# Altium footprint library Gateway.PcbLib: 24 footprints (part 2 of 2)
Each footprint in its own frame and in the unit in brackets; x right, y up, seen from the top. Pads: shape width x height; smd on the part's side, far side on the other; paste and mask are expansions set on the pad; w line width, h text height; cw(c..) or ccw(c..) is an arc to the next point about the centre after c.
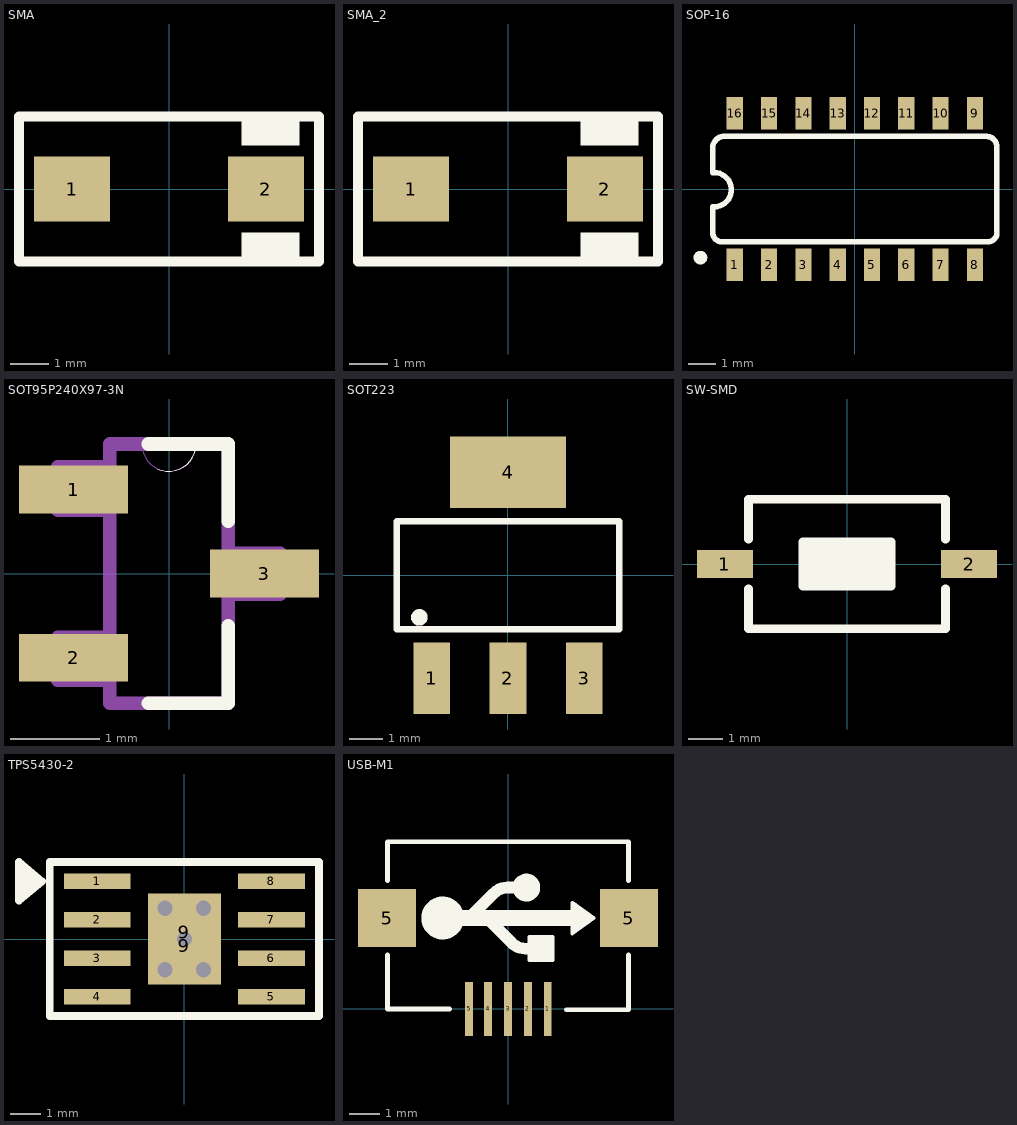
[diagram p1: the footprints below, top view; thin cyan lines are the x and y axes]

## SMA [mm]
height 5.08
pads (2):
  rect 2x1.7 smd: 1(-2.544,0) 2(2.544,0)
Top Overlay:
  rectangle: 1.905,-1.905 3.429,-1.145
  region: 3.429,1.905 1.905,1.905 1.905,1.145 3.429,1.145
  lines w0.254: -3.937,-1.903 3.937,-1.903 3.937,1.903 -3.937,1.903 -3.937,-1.903
3D body: height 0.2, standoff 0, extent 2.032,-0.864 2.87,0.864
3D body: height 1.14, standoff 0, extent 2.718,-0.864 2.87,0.864
3D body: height 1.14, standoff 0.94, extent 2.489,-0.864 2.87,0.864
3D body: height 2.29, standoff 0.2, extent 2.032,-0.864 2.642,0.864
3D body: height 2.29, standoff 0.2, extent -2.642,-0.864 -2.032,0.864
3D body: height 1.14, standoff 0.94, extent -2.87,-0.864 -2.489,0.864
3D body: height 1.14, standoff 0, extent -2.87,-0.864 -2.718,0.864
3D body: height 0.2, standoff 0, extent -2.87,-0.864 -2.032,0.864
3D body: height 2.29, standoff 0.2, extent -2.64,-1.395 2.642,1.395

## SMA_2 [mm]
pads (2):
  rect 2x1.7 smd: 1(-2.544,0) 2(2.544,0)
Top Overlay:
  region: 3.429,1.905 1.905,1.905 1.905,1.145 3.429,1.145
  rectangle: 1.905,-1.905 3.429,-1.145
  lines w0.254: -3.937,-1.903 -3.937,1.903 3.937,1.903 3.937,-1.903 -3.937,-1.903
3D body: height 2.29, standoff 0.2, extent -2.64,-1.395 2.642,1.395
3D body: height 0.2, standoff 0, extent -2.87,-0.864 -2.032,0.864
3D body: height 1.14, standoff 0, extent -2.87,-0.864 -2.718,0.864
3D body: height 1.14, standoff 0.94, extent -2.87,-0.864 -2.489,0.864
3D body: height 2.29, standoff 0.2, extent -2.642,-0.864 -2.032,0.864
3D body: height 2.29, standoff 0.2, extent 2.032,-0.864 2.642,0.864
3D body: height 1.14, standoff 0.94, extent 2.489,-0.864 2.87,0.864
3D body: height 1.14, standoff 0, extent 2.718,-0.864 2.87,0.864
3D body: height 0.2, standoff 0, extent 2.032,-0.864 2.87,0.864

## SOP-16 [mm]
height 5.08
pads (16):
  rect 0.6x1.2 smd: 1(-4.445,-2.8) 2(-3.175,-2.8) 3(-1.905,-2.8) 4(-0.635,-2.8) 5(0.635,-2.8) 6(1.905,-2.8) 7(3.175,-2.8) 8(4.445,-2.8) 9(4.445,2.8) 10(3.175,2.8) 11(1.905,2.8) 12(0.635,2.8) 13(-0.635,2.8) 14(-1.905,2.8) 15(-3.175,2.8) 16(-4.445,2.8)
Top Overlay:
  circle w0.254: c-5.715,-2.54 r0.127
  lines w0.203: -5.257,-1.668 ccw(c-4.927,-1.615) -4.874,-1.946 ; -5.258,-1.665 -5.258,-0.66 ; -5.258,0.61 -5.258,1.453 ; -5.257,1.463 cw(c-4.827,1.515) -4.88,1.946 ; -5.207,-0.66 ccw(c-5.207,-0.025) -5.207,0.61 ; -4.877,-1.946 4.977,-1.946 ; -4.877,1.946 4.877,1.946 cw(c4.877,1.565) 5.258,1.565 5.258,-1.565 ; 4.979,-1.946 ccw(c4.927,-1.615) 5.257,-1.563
Mechanical 13:
  region: 4.699,2.286 4.191,2.286 4.191,3.302 4.699,3.302
  region: 3.429,2.286 2.921,2.286 2.921,3.302 3.429,3.302
  region: 2.159,2.286 1.651,2.286 1.651,3.302 2.159,3.302
  region: 0.889,2.286 0.381,2.286 0.381,3.302 0.889,3.302
  region: -0.381,2.286 -0.889,2.286 -0.889,3.302 -0.381,3.302
  region: -1.651,2.286 -2.159,2.286 -2.159,3.302 -1.651,3.302
  region: -2.921,2.286 -3.429,2.286 -3.429,3.302 -2.921,3.302
  region: -4.191,2.286 -4.699,2.286 -4.699,3.365 -4.191,3.365
  region: 4.699,-3.302 4.191,-3.302 4.191,-2.273 4.699,-2.273
  region: 3.429,-3.302 2.921,-3.302 2.921,-2.273 3.429,-2.273
  region: 2.159,-3.302 1.651,-3.302 1.651,-2.273 2.159,-2.273
  region: 0.889,-3.302 0.381,-3.302 0.381,-2.273 0.889,-2.273
  region: -0.381,-3.302 -0.889,-3.302 -0.889,-2.273 -0.381,-2.273
  region: -1.651,-3.302 -2.159,-3.302 -2.159,-2.273 -1.651,-2.273
  region: -2.921,-3.302 -3.429,-3.302 -3.429,-2.273 -2.921,-2.273
  region: -4.191,-3.302 -4.699,-3.302 -4.699,-2.273 -4.191,-2.273
3D body: height 0.2, standoff 0, extent 4.204,2.779 4.696,3.475
3D body: height 0.9, standoff 0, extent 4.204,2.454 4.696,2.779
3D body: height 0.9, standoff 0.7, extent 4.204,1.415 4.696,2.454
3D body: height 0.9, standoff 0.7, extent 2.934,1.415 3.426,2.454
3D body: height 0.9, standoff 0, extent 2.934,2.454 3.426,2.779
3D body: height 0.2, standoff 0, extent 2.934,2.779 3.426,3.475
3D body: height 0.2, standoff 0, extent 0.394,2.779 0.886,3.475
3D body: height 0.9, standoff 0, extent 0.394,2.454 0.886,2.779
3D body: height 0.9, standoff 0.7, extent 0.394,1.415 0.886,2.454
3D body: height 0.9, standoff 0.7, extent 1.664,1.415 2.156,2.454
3D body: height 0.9, standoff 0, extent 1.664,2.454 2.156,2.779
3D body: height 0.2, standoff 0, extent 1.664,2.779 2.156,3.475
3D body: height 0.2, standoff 0, extent -2.146,2.779 -1.654,3.475
3D body: height 0.9, standoff 0, extent -2.146,2.454 -1.654,2.779
3D body: height 0.9, standoff 0.7, extent -2.146,1.415 -1.654,2.454
3D body: height 0.9, standoff 0.7, extent -0.876,1.415 -0.384,2.454
3D body: height 0.9, standoff 0, extent -0.876,2.454 -0.384,2.779
3D body: height 0.2, standoff 0, extent -0.876,2.779 -0.384,3.475
3D body: height 0.2, standoff 0, extent -4.686,2.779 -4.194,3.475
3D body: height 0.9, standoff 0, extent -4.686,2.454 -4.194,2.779
3D body: height 0.9, standoff 0.7, extent -4.686,1.415 -4.194,2.454
3D body: height 0.9, standoff 0.7, extent -3.416,1.415 -2.924,2.454
3D body: height 0.9, standoff 0, extent -3.416,2.454 -2.924,2.779
3D body: height 0.2, standoff 0, extent -3.416,2.779 -2.924,3.475
3D body: height 0.2, standoff 0, extent 2.923,-3.475 3.416,-2.779
3D body: height 0.9, standoff 0, extent 2.923,-2.779 3.416,-2.454
3D body: height 0.9, standoff 0.7, extent 2.923,-2.454 3.416,-1.415
3D body: height 0.9, standoff 0.7, extent 4.193,-2.454 4.686,-1.415
3D body: height 0.9, standoff 0, extent 4.193,-2.779 4.686,-2.454
3D body: height 0.2, standoff 0, extent 4.193,-3.475 4.686,-2.779
3D body: height 0.2, standoff 0, extent 0.383,-3.475 0.876,-2.779
3D body: height 0.9, standoff 0, extent 0.383,-2.779 0.876,-2.454
3D body: height 0.9, standoff 0.7, extent 0.383,-2.454 0.876,-1.415
3D body: height 0.9, standoff 0.7, extent 1.653,-2.454 2.146,-1.415
3D body: height 0.9, standoff 0, extent 1.653,-2.779 2.146,-2.454
3D body: height 0.2, standoff 0, extent 1.653,-3.475 2.146,-2.779
3D body: height 0.2, standoff 0, extent -2.157,-3.475 -1.664,-2.779
3D body: height 0.9, standoff 0, extent -2.157,-2.779 -1.664,-2.454
3D body: height 0.9, standoff 0.7, extent -2.157,-2.454 -1.664,-1.415
3D body: height 0.9, standoff 0.7, extent -0.887,-2.454 -0.394,-1.415
3D body: height 0.9, standoff 0, extent -0.887,-2.779 -0.394,-2.454
3D body: height 0.2, standoff 0, extent -0.887,-3.475 -0.394,-2.779
3D body: height 0.2, standoff 0, extent -3.427,-3.475 -2.934,-2.779
3D body: height 0.9, standoff 0, extent -3.427,-2.779 -2.934,-2.454
3D body: height 0.9, standoff 0.7, extent -3.427,-2.454 -2.934,-1.415
3D body: height 0.9, standoff 0.7, extent -4.697,-2.454 -4.204,-1.415
3D body: height 0.9, standoff 0, extent -4.697,-2.779 -4.204,-2.454
3D body: height 0.2, standoff 0, extent -4.697,-3.475 -4.204,-2.779
3D body: height 1.75, standoff 0, extent -4.95,-1.95 4.95,1.95

## SOT95P240X97-3N [mil]
height 200
pads (3):
  rect 48x21 smd: 1(-42,37) 2(-42,-37) 3(42,0)
Top Overlay:
  lines w0: -4.98,45.99 ccw(c-0.21,57.23) 12,57.02
  lines w6: -9,-57 26,-57 26,-23 ; -9,57 12,57 26,57 26,23
Mechanical 13:
  lines w0: -12,57 ccw(c0,57) 12,57
  lines w6: -26,-47 -49,-47 -49,-28 -26,-28 ; -26,-47 -26,-28 ; -26,-47 -26,-57 26,-57 26,-9 ; -26,-28 -26,28 ; -26,28 -49,28 -49,47 -26,47 ; -26,28 -26,47 ; -26,47 -26,57 -12,57 12,57 26,57 26,9 ; 26,-9 49,-9 49,9 26,9 ; 26,-9 26,9

## SOT223 [mm] "SOT-223/SC-73; 4 Leads; Body 6.7 x 7.3 mm, inc. leads (LxW max)"
height 1.8
pads (4):
  rect 1.1x2.15 smd: 1(-2.3,-3.1) 2(0,-3.1) 3(2.3,-3.1)
  rect 3.5x2.15 smd: 4(0,3.1)
Top Overlay:
  circle w0.25: c-2.665,-1.27 r0.125
  lines w0.2: -3.35,-1.625 -3.35,1.625 3.35,1.625 3.35,-1.625 -3.35,-1.625
3D body: height 2.54, standoff 0, extent -3.429,-1.651 3.429,1.651

## SW-SMD [mm] "Switch SMD type"
pads (2):
  rect 1.6x0.8 smd: 1(-3.5,0) 2(3.5,0)
Top Overlay:
  rectangle: -1.27,-0.635 1.27,0.635
  lines w0.254: -2.819,-0.711 -2.819,-1.854 2.819,-1.854 2.819,-0.711 ; -2.819,0.711 -2.819,1.854 2.819,1.854 2.819,0.711 ; -1.27,-0.635 -1.27,0.635 1.27,0.635 1.27,-0.635 -1.27,-0.635
3D body "User Library-Button-SMD.step": height 2.5, standoff 0, extent -3.05,-1.85 3.05,1.85

## TPS5430-2 [mm]
height 5.08
pads (10):
  rect 2.2x0.508 smd: 1(-2.875,1.905) 2(-2.875,0.635) 3(-2.875,-0.635) 4(-2.875,-1.905) 5(2.875,-1.905) 6(2.875,-0.635) 7(2.875,0.635) 8(2.875,1.905)
  rect 2.413x2.54 smd: 9(0,-0.229) 9(0,0.229)
via 0,0 diameter 0.9 hole 0.5
via -0.635,-1.016 diameter 0.9 hole 0.5
via 0.635,1.016 diameter 0.9 hole 0.5
via 0.635,-1.016 diameter 0.9 hole 0.5
via -0.635,1.016 diameter 0.9 hole 0.5
Top Overlay:
  region: -4.699,1.905 -5.461,2.54 -5.461,1.27
  lines w0.254: -5.461,1.27 -5.461,2.54 -4.699,1.905 -5.461,1.27 ; -4.445,-2.54 4.445,-2.54 4.445,2.54 -4.445,2.54 -4.445,-2.54
3D body: height 1.69, standoff 0, extent -1.554,1.031 -0.536,2.049
3D body: height 0.89, standoff 0.79, extent 1.778,-2.134 2.286,-1.676
3D body: height 0.89, standoff 0, extent 2.286,-2.134 2.388,-1.676
3D body: height 0.1, standoff 0, extent 2.388,-2.134 3.327,-1.676
3D body: height 0.1, standoff 0, extent 2.388,-0.864 3.327,-0.406
3D body: height 0.89, standoff 0, extent 2.286,-0.864 2.388,-0.406
3D body: height 0.89, standoff 0.79, extent 1.778,-0.864 2.286,-0.406
3D body: height 0.1, standoff 0, extent 2.388,0.406 3.327,0.864
3D body: height 0.89, standoff 0, extent 2.286,0.406 2.388,0.864
3D body: height 0.89, standoff 0.79, extent 1.778,0.406 2.286,0.864
3D body: height 0.1, standoff 0, extent 2.388,1.676 3.327,2.134
3D body: height 0.89, standoff 0, extent 2.286,1.676 2.388,2.134
3D body: height 0.89, standoff 0.79, extent 1.778,1.676 2.286,2.134
3D body: height 0.89, standoff 0.79, extent -2.286,-2.134 -1.778,-1.676
3D body: height 0.89, standoff 0, extent -2.388,-2.134 -2.286,-1.676
3D body: height 0.1, standoff 0, extent -3.327,-2.134 -2.388,-1.676
3D body: height 0.89, standoff 0.79, extent -2.286,-0.864 -1.778,-0.406
3D body: height 0.89, standoff 0, extent -2.388,-0.864 -2.286,-0.406
3D body: height 0.1, standoff 0, extent -3.327,-0.864 -2.388,-0.406
3D body: height 0.89, standoff 0.79, extent -2.286,0.406 -1.778,0.864
3D body: height 0.89, standoff 0, extent -2.388,0.406 -2.286,0.864
3D body: height 0.1, standoff 0, extent -3.327,0.406 -2.388,0.864
3D body: height 0.1, standoff 0, extent -3.327,1.676 -2.388,2.134
3D body: height 0.89, standoff 0, extent -2.388,1.676 -2.286,2.134
3D body: height 0.89, standoff 0.79, extent -2.286,1.676 -1.778,2.134
3D body: height 1.68, standoff 0.25, extent -1.995,-2.49 1.995,2.49

## USB-M1 [mil]
height 153.54
pads (7):
  rect 10x70 smd: 1(51.18,0) 2(25.59,0) 3(0,0) 4(-25.59,0) 5(-50,0)
  rect 74.8x74.8 smd: 5(-155.51,116.84) 5(155.51,116.84)
Top Overlay:
  circle w35: c-84.07,117 r10
  circle w20: c23.56,156.21 r7.87
  region: 110.18,117 82.62,97.31 82.62,136.69
  region: 57.03,62.87 27.5,62.87 27.5,92.39 57.03,92.39
  lines w5: 27.5,62.87 27.5,92.39 57.03,92.39 57.03,62.87 27.5,62.87 ; 82.62,97.31 110.18,117 82.62,136.69 82.62,97.31
  lines w6: -155,69.8 -155,0 -75,0 ; -155,164.84 -155,215 155,215 155,164.84 ; 75,-1 155,-1 155,69.8
  lines w15: -52.85,114.46 -18.48,148.83 cw(c-0.65,131) -0.65,156.21 22.5,156.21 ; -24.7,114.54 4.83,85.01 ccw(c22.66,102.84) 22.66,77.63 42.5,77.63
  lines w20: -82.5,117 92.5,117
3D body "Micro USB.STP": height 106.7, standoff -9.04, extent -156.58,4.51 157.59,218.29